# EAGLE library part BD9251FV (library SpaceDIY_IC)
Amplifier for Pyroelectric Infrared Sensor
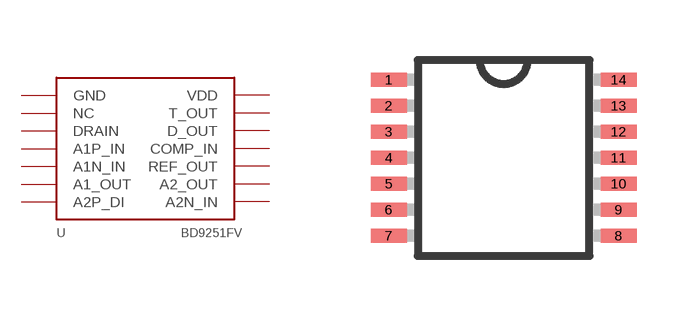
[diagram p0: symbol with the pads of TSSOP-14; footprint TSSOP-14]

Designator prefix -

## BD9251FV  [TSSOP-14]
1  GND
2  NC
3  DRAIN
4  A1P_IN
5  A1N_IN
6  A1_OUT
7  A2P_DI
8  A2N_IN
9  A2_OUT
10  REF_OUT
11  COMP_IN
12  D_OUT
13  T_OUT
14  VDD

## Footprint TSSOP-14 (pad centres in mm)
smd 0.9 x 0.35: 1 -2.955,2.01; 2 -2.955,1.36; 3 -2.955,0.71; 4 -2.955,0.06; 5 -2.955,-0.59; 6 -2.955,-1.24; 7 -2.955,-1.89; 8 2.795,-1.89; 9 2.795,-1.24; 10 2.795,-0.59; 11 2.795,0.06; 12 2.795,0.71; 13 2.795,1.36; 14 2.795,2.01